# Altium footprint library 2EDGRC-5.08-04P-14-00AH.PcbLib: 1 footprints
Each footprint in its own frame and in the unit in brackets; x right, y up, seen from the top. Pads: shape width x height; smd on the part's side, far side on the other; paste and mask are expansions set on the pad; w line width, h text height; cw(c..) or ccw(c..) is an arc to the next point about the centre after c.
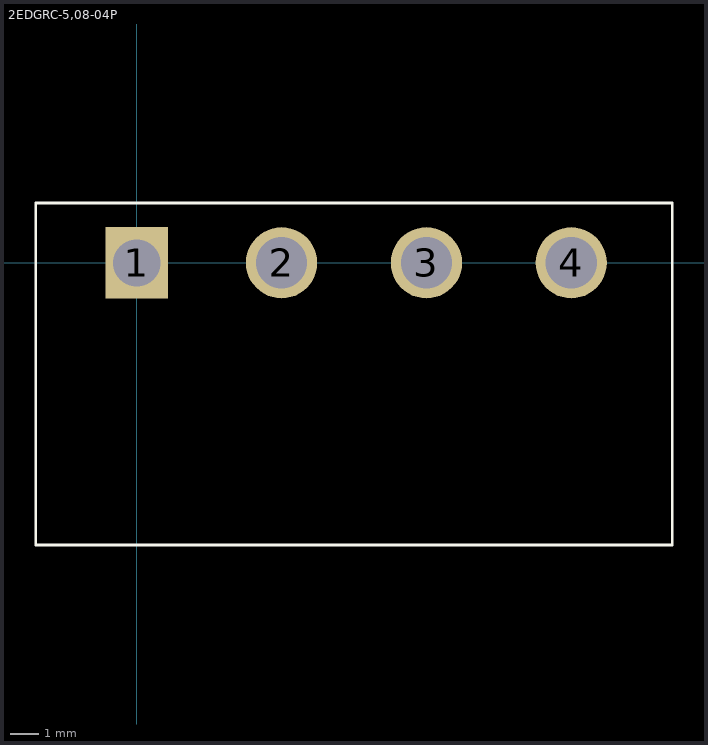
[diagram p0: the footprint, top view; thin cyan lines are the x and y axes]

## 2EDGRC-5,08-04P [mm]
height 8.6
pads (4):
  rect 2.2x2.5 hole 1.65: 1(0,0)
  round 2.5 hole 1.8: 2(5.08,0) 3(10.16,0) 4(15.24,0)
Top Overlay:
  lines w0.1: -3.54,-9.9 -3.54,2.1 18.78,2.1 18.78,-9.9 -3.54,-9.9
3D body "2EDGRC-5.08-04P-14-100A&Z(H).stp": height 8.61, standoff -3.09, extent -3.5,-9.9 18.82,2.1